# EAGLE library part PINHD_3X4 (library Shohei)
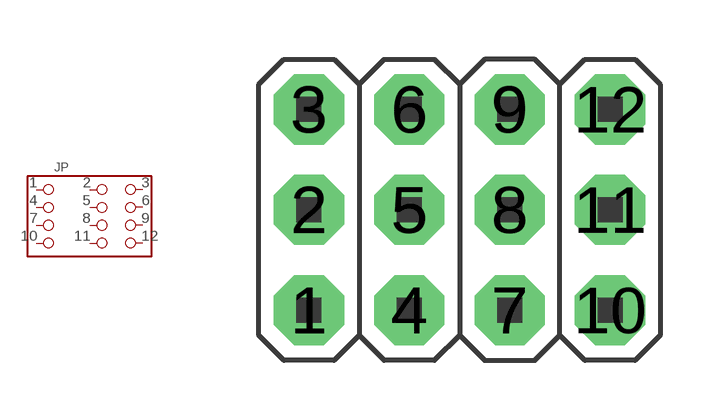
[diagram p4: symbol with the pads of PINHD_3X4; footprint PINHD_3X4]

Designator prefix JP

## PINHD_3X4JP  [PINHD_3X4]
1  1
2  2
3  3
4  4
5  5
6  6
7  7
8  8
9  9
10  10
11  11
12  12

## Footprint PINHD_3X4 (pad centres in mm)
drill 1 pad 1.778 octagon: 1 -3.81,-2.54; 2 -3.81,0; 3 -3.81,2.54; 4 -1.27,-2.54; 5 -1.27,0; 6 -1.27,2.54; 7 1.27,-2.54; 8 1.27,0; 9 1.27,2.54; 10 3.81,-2.54; 11 3.81,0; 12 3.81,2.54